# Altium footprint library RR511D1121.PcbLib: 1 footprints
Each footprint in its own frame and in the unit in brackets; x right, y up, seen from the top. Pads: shape width x height; smd on the part's side, far side on the other; paste and mask are expansions set on the pad; w line width, h text height; cw(c..) or ccw(c..) is an arc to the next point about the centre after c.
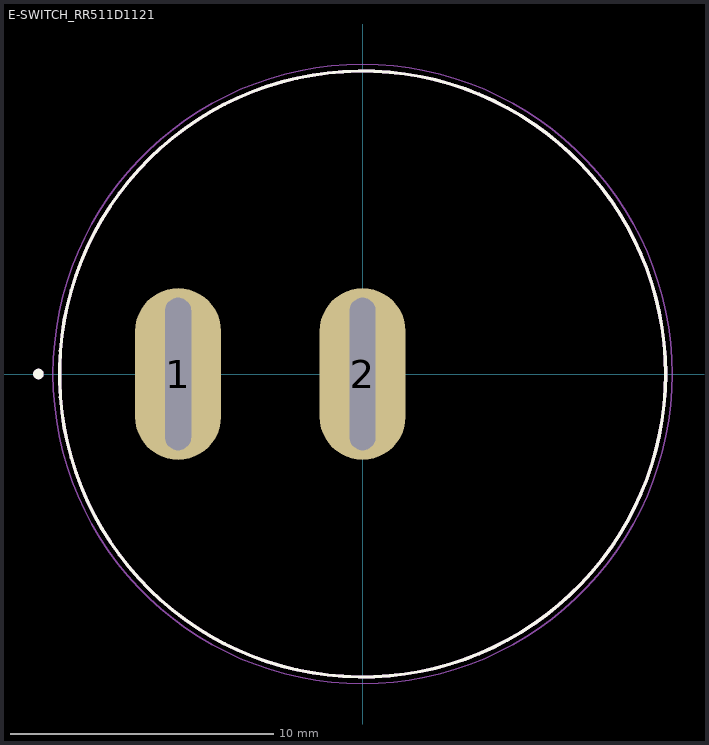
[diagram p0: the footprint, top view; thin cyan lines are the x and y axes]

## E-SWITCH_RR511D1121 [mm]
pads (2):
  oval 3.26x6.52 hole 0.98 slot 5.78 at 90 deg: 1(-7,0) 2(0,0)
Top Overlay:
  circle w0.127: c0,0 r11.5
  circle w0.2: c-12.3,0 r0.1
Mechanical 13:
  circle w0.127: c0,0 r11.5
  circle w0.2: c-12.3,0 r0.1
Mechanical 15:
  circle w0.05: c0,0 r11.75
3D body "step_temp.STEP": height 8.4, standoff -16.33, extent -11.5,-11.5 11.5,11.5